# Altium integrated library fMUX_MB.IntLib: 54 symbols (part 2 of 2)
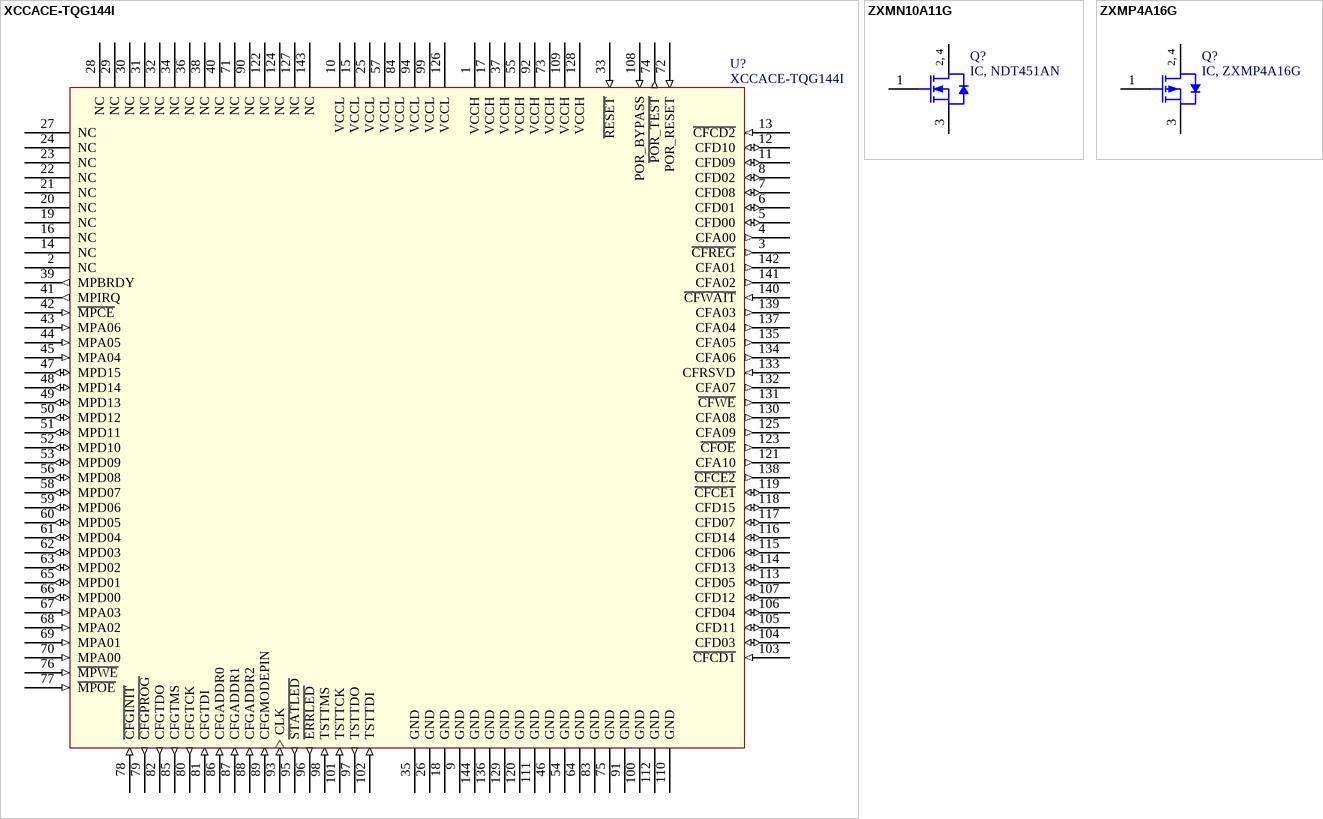
[diagram p11: symbols XCCACE-TQG144I to ZXMP4A16G]

## ZXMP4A16G
designator Q?, comment IC, ZXMP4A16G
40V P-Channel Enhancement Mode MOSFET; PackageDocument: 2002; Published: 17-Dec-2003; DatasheetDocument: Jul-03; PackageReference: SOT223; Publisher: Altium Limited; Code_JEDEC: TO-261-AA-B; ComponentLink1Description: Manufacturer Link; ComponentLink1URL: http://www.zetex.com/; ComponentLink2Description: Datasheet; ComponentLink2URL: www.zetex.com/3.0/pdf/ZXMP4A16G.pdf
footprint SOT223 (SOT-223/SC-73; 4 Leads; Body 6.7 x 7.3 mm, inc. leads (LxW max))
pins: 1 G, 2 D, 3 S, 4 D
text: 2, 4